# EAGLE library part PS-2214-L_NS_PA-186972 (library CYCFI_switch)
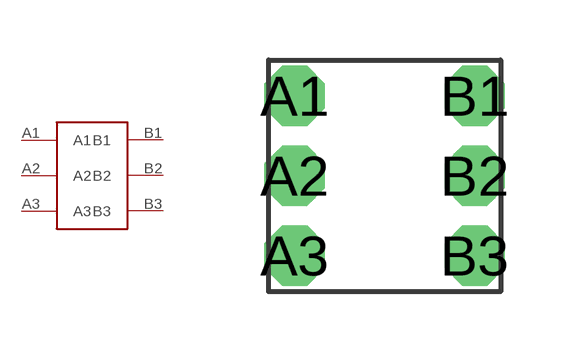
[diagram p1: symbol with the pads of DPDT_C&KPS-2214-LNSPA; footprint DPDT_C&KPS-2214-LNSPA]

Designator prefix -

## PS-2214-L_NS_PA-186972  [DPDT_C&KPS-2214-LNSPA]
A1  A1
A2  A2
A3  A3
B1  B1
B2  B2
B3  B3

## Footprint DPDT_C&KPS-2214-LNSPA (pad centres in mm)
drill 1 octagon: A1 -2.25,2; A2 -2.25,0; A3 -2.25,-2; B1 2.25,2; B2 2.25,0; B3 2.25,-2